# Altium footprint library LEDYEL1206.PcbLib: 1 footprints
Each footprint in its own frame and in the unit in brackets; x right, y up, seen from the top. Pads: shape width x height; smd on the part's side, far side on the other; paste and mask are expansions set on the pad; w line width, h text height; cw(c..) or ccw(c..) is an arc to the next point about the centre after c.
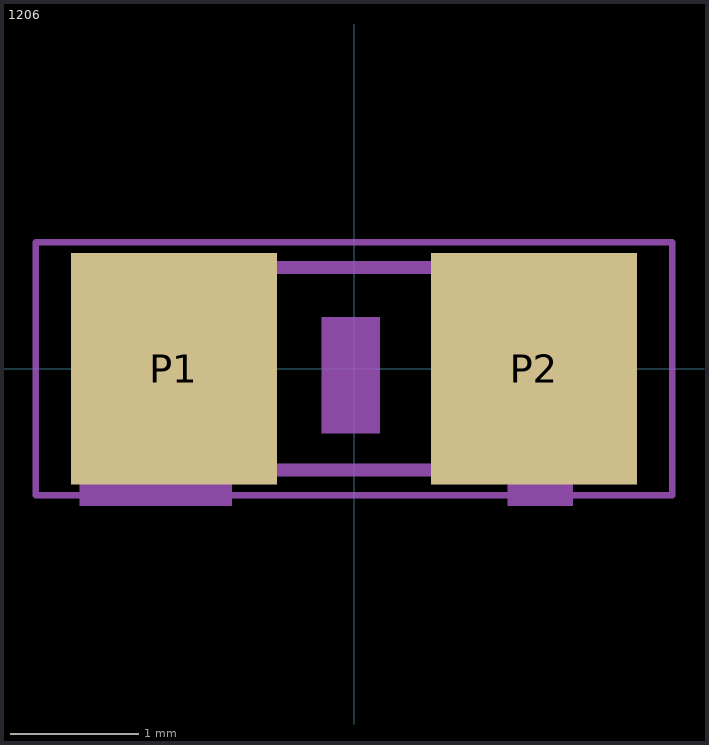
[diagram p0: the footprint, top view; thin cyan lines are the x and y axes]

## 1206 [mm]
pads (2):
  rect 1.6x1.8 smd: P1(-1.4,0) P2(1.4,0)
Mechanical 1:
  region: -2.13,0.849 -0.952,0.849 -0.952,-1.065 -2.13,-1.065
  region: 1.193,0.851 1.702,0.851 1.702,-1.065 1.193,-1.065
  region: -0.251,0.4 0.2,0.4 0.2,-0.503 -0.251,-0.503
  lines w0.051: -2.473,-0.983 2.473,-0.983 2.473,0.983 -2.473,0.983 -2.473,-0.983
  lines w0.102: -0.965,-0.787 0.965,-0.787 ; -0.965,0.787 0.965,0.787